# Altium schematic symbol library Header_2P.SchLib: 1 symbol
Pins are listed as number, name and electrical type; pins without a type are passive.

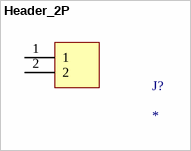
[diagram p0: symbol Header_2P]

## Header_2P
designator J?
pins: 1, 2